# Altium footprint library 4r8.PcbLib: 1 footprints
Each footprint in its own frame and in the unit in brackets; x right, y up, seen from the top. Pads: shape width x height; smd on the part's side, far side on the other; paste and mask are expansions set on the pad; w line width, h text height; cw(c..) or ccw(c..) is an arc to the next point about the centre after c.
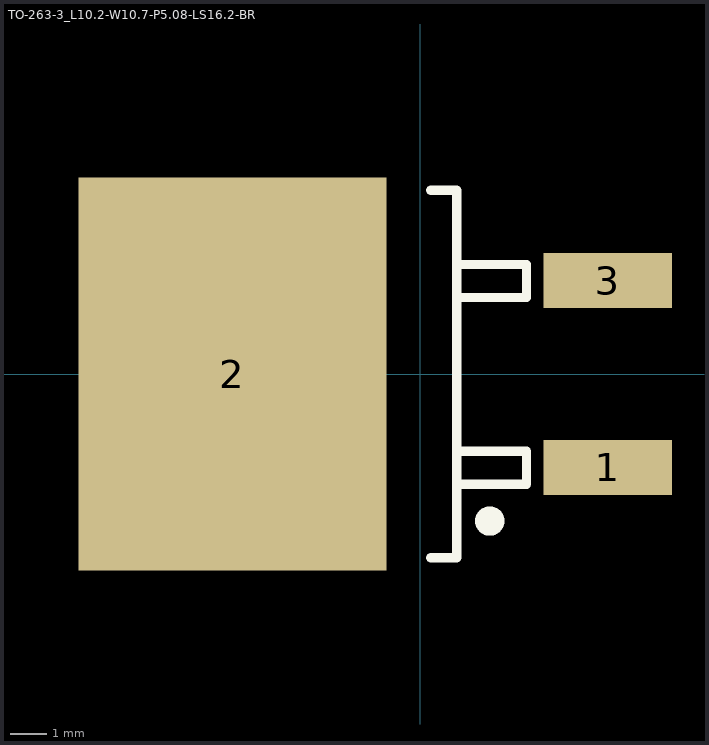
[diagram p0: the footprint, top view; thin cyan lines are the x and y axes]

## TO-263-3_L10.2-W10.7-P5.08-LS16.2-BR [mm]
pads (3):
  rect 3.504x1.5 smd: 1(5.106,-2.54) 3(5.106,2.54)
  rect 8.38x10.7 smd: 2(-5.107,0)
Top Overlay:
  lines w0.254: 0.293,-5 0.994,-5 0.994,5 0.293,5 ; 0.994,-3 2.893,-3 2.893,-2.1 0.994,-2.1 ; 0.994,2.08 2.893,2.08 2.893,2.98 0.994,2.98
  lines w0.4: 1.894,-3.8 ccw(c1.895,-4) 1.896,-3.8